# Altium footprint library Tank.PcbLib: 288 footprints (part 13 of 18)
Each footprint in its own frame and in the unit in brackets; x right, y up, seen from the top. Pads: shape width x height; smd on the part's side, far side on the other; paste and mask are expansions set on the pad; w line width, h text height; cw(c..) or ccw(c..) is an arc to the next point about the centre after c.
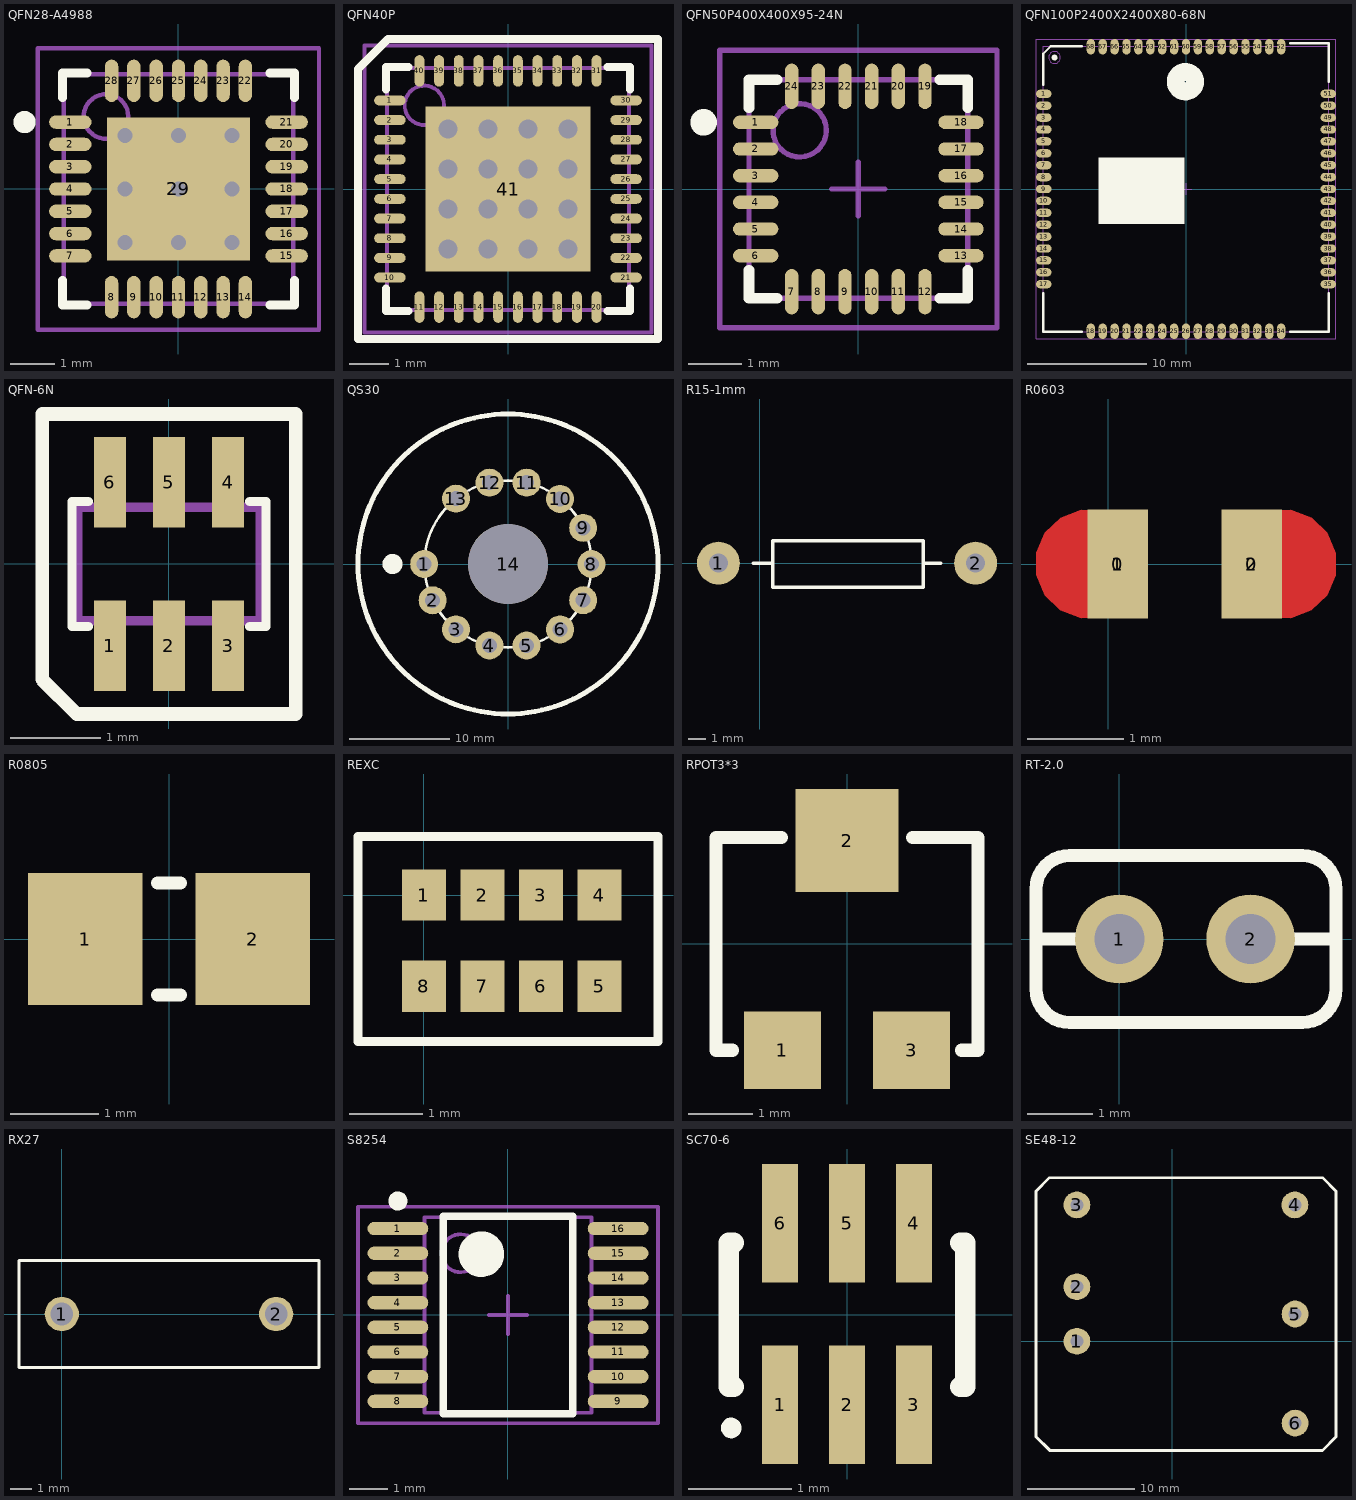
[diagram p12: the footprints below, top view; thin cyan lines are the x and y axes]

## QFN28-A4988 [mm]
height 0.9
pads (29):
  oval 0.95x0.3 smd: 1(-2.425,1.5) 2(-2.425,1) 3(-2.425,0.5) 4(-2.425,0) 5(-2.425,-0.5) 6(-2.425,-1) 7(-2.425,-1.5) 15(2.425,-1.5) 16(2.425,-1) 17(2.425,-0.5) 18(2.425,0) 19(2.425,0.5) 20(2.425,1) 21(2.425,1.5)
  oval 0.3x0.95 smd: 8(-1.5,-2.425) 9(-1,-2.425) 10(-0.5,-2.425) 11(0,-2.425) 12(0.5,-2.425) 13(1,-2.425) 14(1.5,-2.425) 22(1.5,2.425) 23(1,2.425) 24(0.5,2.425) 25(0,2.425) 26(-0.5,2.425) 27(-1,2.425) 28(-1.5,2.425)
  rect 3.2x3.2 smd: 29(0,0)
via -1.2,1.2 diameter 0.66 hole 0.33
via 0,1.2 diameter 0.66 hole 0.33
via 1.2,1.2 diameter 0.66 hole 0.33
via -1.2,0 diameter 0.66 hole 0.33
via 0,0 diameter 0.66 hole 0.33
via 1.2,0 diameter 0.66 hole 0.33
via -1.2,-1.2 diameter 0.66 hole 0.33
via 0,-1.2 diameter 0.66 hole 0.33
via 1.2,-1.2 diameter 0.66 hole 0.33
Top Overlay:
  circle w0.25: c-3.45,1.5 r0.125
  lines w0.2: -2.6,-2.05 -2.6,-2.6 -2.05,-2.6 ; -2.6,2.05 -2.6,2.6 -2.05,2.6 ; 2.05,-2.6 2.6,-2.6 2.6,-2.05 ; 2.05,2.6 2.6,2.6 2.6,2.05
Mechanical 13:
  circle w0.1: c-1.625,1.625 r0.5
  lines w0.1: -2.575,-2.575 -2.575,2.575 2.575,2.575 2.575,-2.575 -2.575,-2.575
Mechanical 15:
  lines w0.1: -0.5,0 0.5,0 ; 0,-0.5 0,0.5 ; -3.15,-3.15 -3.15,3.15 3.15,3.15 3.15,-3.15 -3.15,-3.15
3D body: height 0.9, standoff 0.01, extent -2.575,-2.575 2.575,2.575

## QFN40P [mm] "QFN, 40-Leads, Body 6.2x6.2mm (max), Pitch 0.50mm, IPC Medium Density"
height 0.8
pads (42):
  oval 0.8x0.25 smd: 1(-3,2.25) 2(-3,1.75) 3(-3,1.25) 4(-3,0.75) 5(-3,0.25) 6(-3,-0.25) 7(-3,-0.75) 8(-3,-1.25) 9(-3,-1.75) 10(-3,-2.25) 21(3,-2.25) 22(3,-1.75) 23(3,-1.25) 24(3,-0.75) 25(3,-0.25) 26(3,0.25) 27(3,0.75) 28(3,1.25) 29(3,1.75) 30(3,2.25)
  oval 0.25x0.8 smd: 11(-2.25,-3) 12(-1.75,-3) 13(-1.25,-3) 14(-0.75,-3) 15(-0.25,-3) 16(0.25,-3) 17(0.75,-3) 18(1.25,-3) 19(1.75,-3) 20(2.25,-3) 31(2.25,3) 32(1.75,3) 33(1.25,3) 34(0.75,3) 35(0.25,3) 36(-0.25,3) 37(-0.75,3) 38(-1.25,3) 39(-1.75,3) 40(-2.25,3)
  rect 0x0 smd: 41(0,0)
  rect 4.2x4.2 smd: 41(0,0)
via -1.524,1.524 diameter 0.711 hole 0.483
via -0.508,1.524 diameter 0.711 hole 0.483
via 0.508,1.524 diameter 0.711 hole 0.483
via 1.524,1.524 diameter 0.711 hole 0.483
via -1.524,0.508 diameter 0.711 hole 0.483
via -1.524,-0.508 diameter 0.711 hole 0.483
via -1.524,-1.524 diameter 0.711 hole 0.483
via -0.508,0.508 diameter 0.711 hole 0.483
via -0.508,-0.508 diameter 0.711 hole 0.483
via -0.508,-1.524 diameter 0.711 hole 0.483
via 0.508,0.508 diameter 0.711 hole 0.483
via 0.508,-0.508 diameter 0.711 hole 0.483
via 0.508,-1.524 diameter 0.711 hole 0.483
via 1.524,0.508 diameter 0.711 hole 0.483
via 1.524,-0.508 diameter 0.711 hole 0.483
via 1.524,-1.524 diameter 0.711 hole 0.483
Top Overlay:
  lines w0.2: -3.1,-2.525 -3.1,-3.1 -2.525,-3.1 ; -3.1,2.525 -3.1,3.1 -2.525,3.1 ; 2.525,-3.1 3.1,-3.1 3.1,-2.525 ; 2.525,3.1 3.1,3.1 3.1,2.525 ; -3.81,-3.81 3.81,-3.81 3.81,3.81 -3.048,3.81 -3.81,3.048 -3.81,-3.81
Mechanical 13:
  circle w0.1: c-2.125,2.125 r0.5
  lines w0.1: -3.075,-3.075 -3.075,3.075 3.075,3.075 3.075,-3.075 -3.075,-3.075
Mechanical 15:
  lines w0.1: -0.5,0 0.5,0 ; 0,-0.5 0,0.5 ; -3.65,-3.65 -3.65,3.65 3.65,3.65 3.65,-3.65 -3.65,-3.65

## QFN50P400X400X95-24N [mm] "QFN, 24-Leads, Body 4.1x4.1mm (max), Pitch 0.50mm, IPC Medium Density"
height 0.95
pads (24):
  oval 0.85x0.25 smd: 1(-1.925,1.25) 2(-1.925,0.75) 3(-1.925,0.25) 4(-1.925,-0.25) 5(-1.925,-0.75) 6(-1.925,-1.25) 13(1.925,-1.25) 14(1.925,-0.75) 15(1.925,-0.25) 16(1.925,0.25) 17(1.925,0.75) 18(1.925,1.25)
  oval 0.25x0.85 smd: 7(-1.25,-1.925) 8(-0.75,-1.925) 9(-0.25,-1.925) 10(0.25,-1.925) 11(0.75,-1.925) 12(1.25,-1.925) 19(1.25,1.925) 20(0.75,1.925) 21(0.25,1.925) 22(-0.25,1.925) 23(-0.75,1.925) 24(-1.25,1.925)
Top Overlay:
  circle w0.25: c-2.9,1.25 r0.125
  lines w0.2: -2.05,-1.525 -2.05,-2.05 -1.525,-2.05 ; -2.05,1.525 -2.05,2.05 -1.525,2.05 ; 1.525,-2.05 2.05,-2.05 2.05,-1.525 ; 1.525,2.05 2.05,2.05 2.05,1.525
Mechanical 13:
  circle w0.1: c-1.1,1.1 r0.5
  lines w0.1: -2.05,-2.05 -2.05,2.05 2.05,2.05 2.05,-2.05 -2.05,-2.05
Mechanical 15:
  lines w0.1: -0.5,0 0.5,0 ; 0,-0.5 0,0.5 ; -2.6,-2.6 -2.6,2.6 2.6,2.6 2.6,-2.6 -2.6,-2.6
3D body: height 0.95, standoff 0, extent -2.05,-2.05 2.05,2.05

## QFN100P2400X2400X80-68N [mm] "QFN, 68-Leads, Body 24.0x24.0mm (max), Pitch 1.00mm, IPC Medium Density"
height 0.8
pads (69):
  oval 1.3x0.7 smd: 1(-11.954,8) 2(-11.954,7) 3(-11.954,6) 4(-11.954,5) 5(-11.954,4) 6(-11.954,3) 7(-11.954,2) 8(-11.954,1) 9(-11.954,0) 10(-11.954,-1) 11(-11.954,-2) 12(-11.954,-3) 13(-11.954,-4) 14(-11.954,-5) 15(-11.954,-6) 16(-11.954,-7) 17(-11.954,-8) 35(11.954,-8) 36(11.954,-7) 37(11.954,-6) 38(11.954,-5) 39(11.954,-4) 40(11.954,-3) 41(11.954,-2) 42(11.954,-1) 43(11.954,0) 44(11.954,1) 45(11.954,2) 46(11.954,3) 47(11.954,4) 48(11.954,5) 49(11.954,6) 50(11.954,7) 51(11.954,8)
  oval 0.7x1.3 smd: 18(-8,-11.954) 19(-7,-11.954) 20(-6,-11.954) 21(-5,-11.954) 22(-4,-11.954) 23(-3,-11.954) 24(-2,-11.954) 25(-1,-11.954) 26(0,-11.954) 27(1,-11.954) 28(2,-11.954) 29(3,-11.954) 30(4,-11.954) 31(5,-11.954) 32(6,-11.954) 33(7,-11.954) 34(8,-11.954) 52(8,11.954) 53(7,11.954) 54(6,11.954) 55(5,11.954) 56(4,11.954) 57(3,11.954) 58(2,11.954) 59(1,11.954) 60(0,11.954) 61(-1,11.954) 62(-2,11.954) 63(-3,11.954) 64(-4,11.954) 65(-5,11.954) 66(-6,11.954) 67(-7,11.954) 68(-8,11.954)
  rect 0x0 smd: 69(0,0)
Top Overlay:
  circle w0.25: c-11.047,11.049 r0.125
  circle w1.5: c-0.051,9.017 r0.813
  rectangle: -7.366,-2.921 -0.127,2.667
  lines w0.2: -12,-8.75 -12,-12 -8.75,-12 ; -12,8.75 -12,11.368 -11.368,12 -8.75,12 ; 8.75,-12 12,-12 12,-8.75 ; 8.75,12.254 12,12.254 12,9.004
Mechanical 13:
  circle w0.1: c-11.05,11.05 r0.5
  lines w0.1: -12,-12 12,-12 12,12 -12,12 -12,-12
Mechanical 15:
  lines w0.1: -0.5,0 0.5,0 ; 0,-0.5 0,0.5 ; -12.6,-12.6 12.6,-12.6 12.6,12.6 -12.6,12.6 -12.6,-12.6
3D body: height 0.8, standoff 0.01, extent -11.938,-12.062 12.062,11.938

## QFN-6N [mm] "QFN, 6-Leads, Body 1.3x2.0mm (max), Pitch 0.65mm, IPC Medium Density"
height 0.8
pads (6):
  rect 0.35x1 smd: 1(-0.65,-0.9) 2(0,-0.9) 4(0.65,0.9) 5(0,0.9) 6(-0.65,0.9)
  rect 0.356x1 smd: 3(0.65,-0.9)
Top Overlay:
  lines w0.1: -0.889,-0.686 -1.067,-0.686 -1.067,0.686 -0.889,0.686 ; 0.889,-0.686 1.067,-0.686 1.067,0.686 0.889,0.686
  lines w0.15: -1.397,-1.27 -1.397,1.651 1.397,1.651 1.397,-1.651 -1.016,-1.651 -1.397,-1.27
Mechanical 13:
  lines w0.1: -1,-0.625 -1,0.625 1,0.625 1,-0.625 -1,-0.625

## QS30 [mm]
pads (14):
  round 2.8 hole 1.5: 1(-8.382,0) 2(-7.53,-3.626) 3(-5.209,-6.529) 4(-1.863,-8.152) 5(1.858,-8.151) 6(5.21,-6.539) 7(7.514,-3.623) 8(8.342,-0.004) 9(7.515,3.613) 10(5.2,6.512) 11(1.863,8.133) 12(-1.85,8.134) 13(-5.202,6.536)
  round 8 hole 8: 14(0,0)
Top Overlay:
  circle w0.5: c0,0 r15
  circle w1: c-11.549,0 r0.5
  circle w0.254: c0,0 r8.35

## R15-1mm [mm]
pads (2):
  round 2.5 hole 1.1: 1(-2.413,0) 2(12.573,0)
Top Overlay:
  lines w0.2: -0.381,0 0.719,0 ; 9.652,0 10.552,0 ; 0.762,-1.4 9.525,-1.4 9.525,1.3 0.762,1.3 0.762,-1.4

## R0603 [mil]
pads (4):
  rect 27x46 on Top Solder: 0(4,0) 0(59,0)
  rect 25x44.88 smd: 1(4,0) 2(59,0)
Top Layer:
  region: 70.57,21.98 75.07,22.18 83.52,19.02 90.03,12.78 93.57,4.49 93.56,-4.53 90.01,-12.82 83.48,-19.04 75.03,-22.19 70.53,-21.98
  region: -6.57,-21.98 -11.07,-22.18 -19.52,-19.02 -26.03,-12.78 -29.57,-4.49 -29.56,4.53 -26.01,12.82 -19.48,19.04 -11.03,22.19 -6.53,21.98
Top Paste:
  region: 70.57,21.98 75.07,22.18 83.52,19.02 90.03,12.78 93.57,4.49 93.56,-4.53 90.01,-12.82 83.48,-19.04 75.03,-22.19 70.53,-21.98
  region: -6.57,-21.98 -11.07,-22.18 -19.52,-19.02 -26.03,-12.78 -29.57,-4.49 -29.56,4.53 -26.01,12.82 -19.48,19.04 -11.03,22.19 -6.53,21.98
Top Solder:
  region: -6.57,-21.98 -11.07,-22.18 -19.52,-19.02 -26.03,-12.78 -29.57,-4.49 -29.56,4.53 -26.01,12.82 -19.48,19.04 -11.03,22.19 -6.53,21.98
  region: 70.57,21.98 75.07,22.18 83.52,19.02 90.03,12.78 93.57,4.49 93.56,-4.53 90.01,-12.82 83.48,-19.04 75.03,-22.19 70.53,-21.98

## R0805 [mm] "Chip Resistor, 2-Leads, Body 2.0x1.3mm, IPC Medium Density"
height 0.6
pads (2):
  rect 1.298x1.501 smd: 1(-0.95,0) 2(0.95,0)
Top Overlay:
  lines w0.152: -0.127,-0.635 0.127,-0.635 ; -0.127,0.635 0.127,0.635

## REXC [mm]
pads (8):
  rect 0.6x0.7 smd: 1(0,0) 2(0.8,0) 3(1.6,0) 4(2.4,0) 5(2.4,-1.245) 6(1.6,-1.245) 7(0.8,-1.245) 8(0,-1.245)
Top Overlay:
  lines w0.127: -0.9,-2 3.2,-2 3.2,0.8 -0.9,0.8 -0.9,0.6 -0.9,-2

## RPOT3*3 [mm]
pads (3):
  rect 1.2x1.2 smd: 1(-1,-1.651) 3(1,-1.651)
  rect 1.6x1.6 smd: 2(0,1.6)
Top Overlay:
  lines w0.203: -1.778,-1.651 -2.032,-1.651 -2.032,1.651 -1.016,1.651 ; 1.016,1.651 2.032,1.651 2.032,-1.651 1.778,-1.651

## RT-2.0 [mm]
pads (2):
  round 1.35 hole 0.762: 1(0,0) 2(2,0)
Top Overlay:
  lines w0.2: -1.27,0 -0.381,0 ; 2.413,0 3.302,0 ; -1.27,-0.762 ccw(c-0.762,-0.762) -0.762,-1.27 2.794,-1.27 ccw(c2.794,-0.762) 3.302,-0.762 3.302,-0.289 3.302,0.762 ccw(c2.794,0.762) 2.794,1.27 -0.762,1.27 ccw(c-0.762,0.762) -1.27,0.762 -1.27,-0.762

## RX27 [mm]
pads (2):
  round 1.6 hole 1.06: 1(0,0) 2(10,0)
Top Overlay:
  lines w0.127: -2,-2.5 -2,2.5 12,2.5 12,-2.5 -2,-2.5

## S8254 [mm]
height 2.65
pads (16):
  oval 1.6x0.35 smd: 1(-2.9,2.275) 2(-2.9,1.625) 3(-2.9,0.975) 4(-2.9,0.325) 5(-2.9,-0.325) 6(-2.9,-0.975) 7(-2.9,-1.625) 8(-2.9,-2.275) 9(2.9,-2.275) 10(2.9,-1.625) 11(2.9,-0.975) 12(2.9,-0.325) 13(2.9,0.325) 14(2.9,0.975) 15(2.9,1.625) 16(2.9,2.275)
Top Overlay:
  circle w0.25: c-2.9,3 r0.125
  circle w0.6: c-0.7,1.6 r0.3
  lines w0.2: -1.7,-2.6 -1.7,2.6 1.7,2.6 1.7,-2.6 -1.7,-2.6
Mechanical 13:
  circle w0.1: c-1.25,1.625 r0.5
  lines w0.1: -2.2,-2.575 -2.2,2.575 2.2,2.575 2.2,-2.575 -2.2,-2.575
Mechanical 15:
  lines w0.1: -0.5,0 0.5,0 ; 0,-0.5 0,0.5 ; -3.95,-2.85 -3.95,2.85 3.95,2.85 3.95,-2.85 -3.95,-2.85
3D body: height 2.65, standoff 0.19, extent -2.2,-2.575 2.2,2.575

## SC70-6 [mm]
pads (6):
  rect 0.35x1.15 smd: 1(-0.65,-0.875) 2(0,-0.875) 3(0.65,-0.875) 4(0.65,0.889) 5(0,0.889) 6(-0.65,0.889)
Top Overlay:
  circle w0.1: c-1.125,-1.1 r0.05
  lines w0.2: -1.1,-0.7 -1.15,-0.7 -1.15,0.7 -1.1,0.7 ; 1.1,-0.7 1.15,-0.7 1.15,0.7 1.1,0.7

## SE48-12 [mm]
pads (6):
  round 2.5 hole 1.2: 1(-8.89,0) 2(-8.89,5.08) 3(-8.89,12.7) 4(11.41,12.7) 5(11.43,2.54) 6(11.43,-7.62)
Top Overlay:
  lines w0.254: -12.7,-8.89 -12.7,13.97 -11.43,15.24 13.97,15.24 15.24,13.97 15.24,-8.89 13.97,-10.16
  lines w0.3: -12.7,-8.89 -11.43,-10.16 13.97,-10.16